# Altium footprint library 14D390K.PcbLib: 1 footprints
Each footprint in its own frame and in the unit in brackets; x right, y up, seen from the top. Pads: shape width x height; smd on the part's side, far side on the other; paste and mask are expansions set on the pad; w line width, h text height; cw(c..) or ccw(c..) is an arc to the next point about the centre after c.
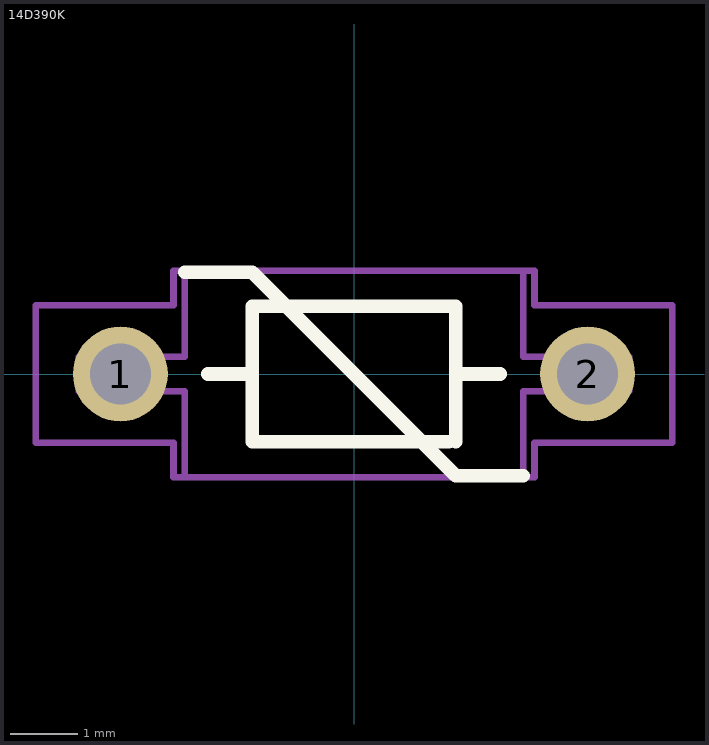
[diagram p0: the footprint, top view; thin cyan lines are the x and y axes]

## 14D390K [mm] "Pitch7.5mm High40mm"
height 40
pads (2):
  round 1.4 hole 0.9: 1(-3.45,0) 2(3.45,0)
Top Overlay:
  lines w0.152: -2.159,0 -1.5,0 ; 1.5,0 2.159,0
  lines w0.2: -2.5,1.5 -1.5,1.5 0,0 1.5,-1.5 2.5,-1.5 ; -2.159,0 -1.5,0 ; 1.4,-1 -1.5,-1 -1.5,0 ; 1.5,-1 1.5,0 ; 2.159,0 1.5,0 ; -1.5,0 -1.5,1 -1.4,1 1.5,1 1.5,0
Mechanical 13:
  lines w0.1: -4.064,-0.254 -2.5,-0.254 -2.5,-1.524 2.5,-1.524 2.5,-0.254 4.064,-0.254 4.064,0.254 2.5,0.254 2.5,1.524 -2.5,1.524 -2.5,0.254 -4.064,0.254 -4.064,-0.254
Mechanical 15:
  lines w0.1: -4.699,-1.016 -2.667,-1.016 -2.667,-1.524 2.667,-1.524 2.667,-1.016 4.699,-1.016 4.699,1.016 2.667,1.016 2.667,1.524 -2.667,1.524 -2.667,1.016 -4.699,1.016 -4.699,-1.016
3D body: height 22.22, standoff -10, extent -7.591,-3.8 7.645,3.8